# Altium schematic symbol library MCUs.SchLib: 10 symbols
Pins are listed as number, name and electrical type; pins without a type are passive.

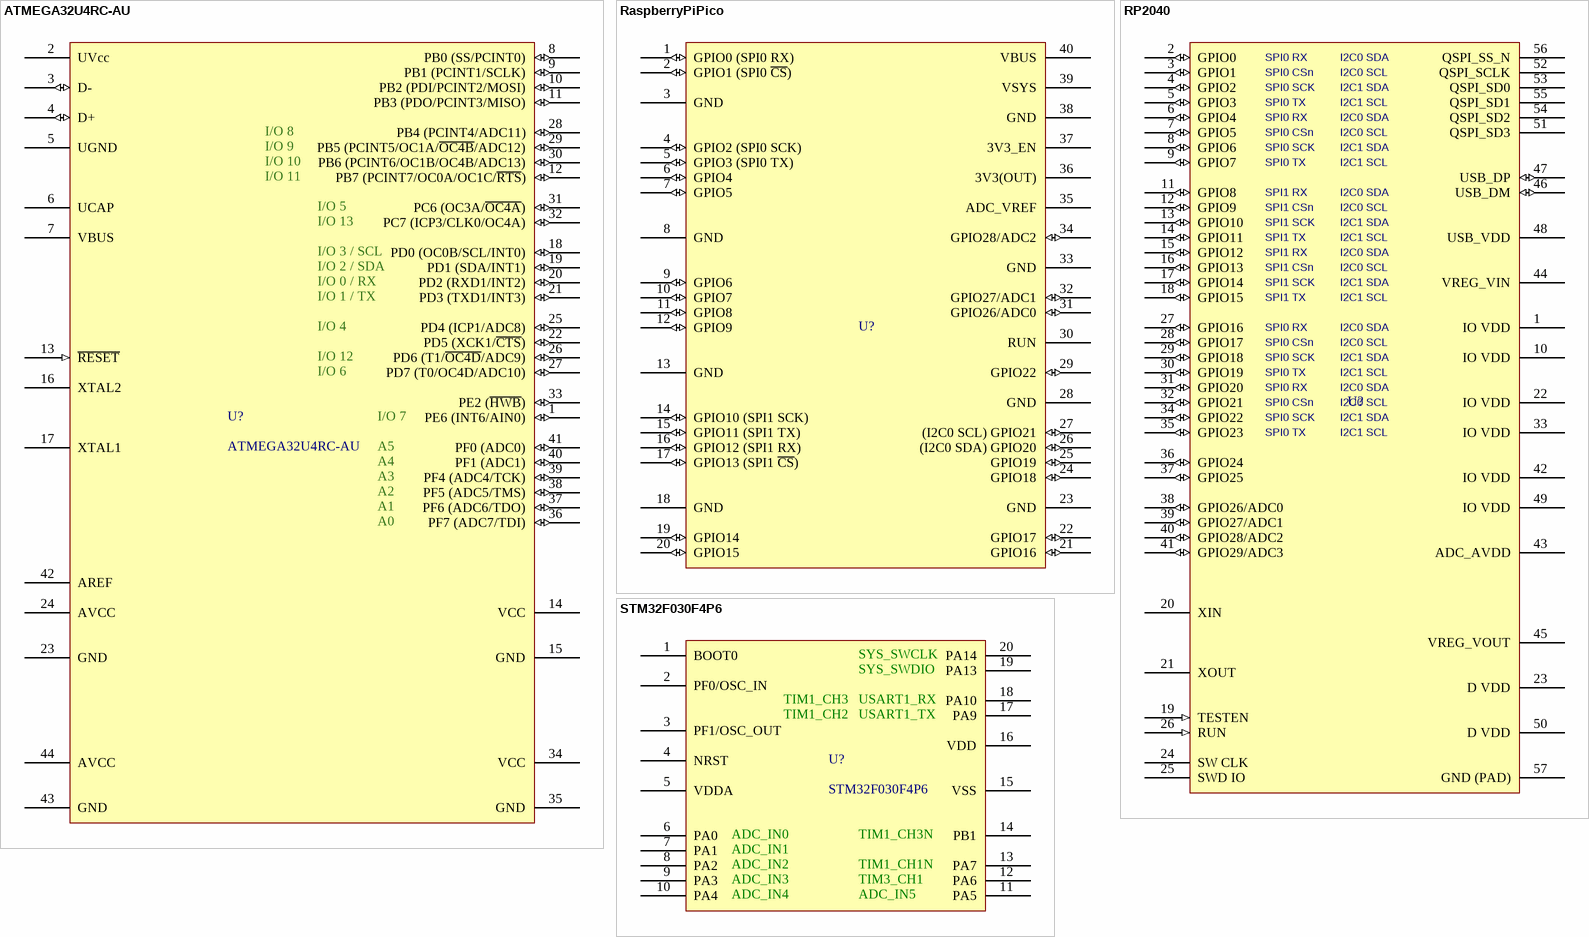
[diagram p0: symbols ATMEGA32U4RC-AU to STM32F030F4P6]

## ATMEGA32U4RC-AU
designator U?
IC MCU 8BIT 32KB FLASH 44TQFP; PNP-Nzl: 6; PNP-dx: 0; PNP-X: 12; PNP-A: 270; PNP-Pt: 1; PNP-W: 0.1; PNP-Thk: 1.6; PNP-Lv: 126; PNP-TS: 70; PNP-Level: 1.2; PNP-Type: QFP; PNP-FeedType: Tray; PNP-PlacePriority: 3; PNP-dy: 0; PNP-Y: 12; PNP-Voff: 0; PNP-da: 0; Supplier 1: Digi-Key; Supplier 2: Mouser; Supplier 3: Arrow; Supplier Part Number 1: ATMEGA32U4RC-AU-ND; Supplier Part Number 2: 556-ATMEGA32U4RC-AU; Supplier Part Number 3: ATMEGA32U4RC-AU
footprint ATmega32U4 - TQFP80P1200X1200X120-44N (TQFP, 44-Leads, Body 10.00x10.00mm, Pitch 0.80mm, IPC Medium Density)
pins: 1 PE6 (INT6/AIN0) (io), 2 UVcc (power), 3 D- (io), 4 D+ (io), 5 UGND, 6 UCAP, 7 VBUS (power), 8 PB0 (SS/PCINT0) (io), 9 PB1 (PCINT1/SCLK) (io), 10 PB2 (PDI/PCINT2/MOSI) (io), 11 PB3 (PDO/PCINT3/MISO) (io), 12 PB7 (PCINT7/OC0A/OC1C/~{RTS}) (io), 13 ~{RESET} (in), 14 VCC (power), 15 GND, 16 XTAL2, 17 XTAL1, 18 PD0 (OC0B/SCL/INT0) (io), 19 PD1 (SDA/INT1) (io), 20 PD2 (RXD1/INT2) (io), 21 PD3 (TXD1/INT3) (io), 22 PD5 (XCK1/~{CTS}) (io), 23 GND, 24 AVCC (power), 25 PD4 (ICP1/ADC8) (io), 26 PD6 (T1/~{OC4D}/ADC9) (io), 27 PD7 (T0/OC4D/ADC10) (io), 28 PB4 (PCINT4/ADC11) (io), 29 PB5 (PCINT5/OC1A/~{OC4B}/ADC12) (io), 30 PB6 (PCINT6/OC1B/OC4B/ADC13) (io), 31 PC6 (OC3A/~{OC4A}) (io), 32 PC7 (ICP3/CLK0/OC4A) (io), 33 PE2 (~{HWB}) (io), 34 VCC (power), 35 GND, 36 PF7 (ADC7/TDI) (io), 37 PF6 (ADC6/TDO) (io), 38 PF5 (ADC5/TMS) (io), 39 PF4 (ADC4/TCK) (io), 40 PF1 (ADC1) (io), 41 PF0 (ADC0) (io), 42 AREF, 43 GND, 44 AVCC (power)
text: I/O 8; I/O 9; I/O 10; I/O 11; I/O 5; I/O 13; I/O 3 / SCL; I/O 2 / SDA; I/O 0 / RX; I/O 1 / TX; I/O 4; I/O 12; I/O 6; I/O 7; A5; A4; A3; A2; A1; A0

## RaspberryPiPico
designator U?, comment Raspberry Pi Pico Socket  (value not drawn)
Thru-hole lands for adding a socket that is compatible with the Raspberry Pi Pico; Supplier 1: Newark; Supplier Part Number 1: 49AJ8740
footprint Raspberry Pi Pico Header
pins: 1 GPIO0 (SPI0 RX) (io), 2 GPIO1 (SPI0 ~{CS}) (io), 3 GND, 4 GPIO2 (SPI0 SCK) (io), 5 GPIO3 (SPI0 TX) (io), 6 GPIO4 (io), 7 GPIO5 (io), 8 GND, 9 GPIO6 (io), 10 GPIO7 (io), 11 GPIO8 (io), 12 GPIO9 (io), 13 GND, 14 GPIO10 (SPI1 SCK) (io), 15 GPIO11 (SPI1 TX) (io), 16 GPIO12 (SPI1 RX) (io), 17 GPIO13 (SPI1 ~{CS}) (io), 18 GND, 19 GPIO14 (io), 20 GPIO15 (io), 21 GPIO16 (io), 22 GPIO17 (io), 23 GND, 24 GPIO18 (io), 25 GPIO19 (io), 26 (I2C0 SDA) GPIO20 (io), 27 (I2C0 SCL) GPIO21 (io), 28 GND, 29 GPIO22 (io), 30 RUN, 31 GPIO26/ADC0 (io), 32 GPIO27/ADC1 (io), 33 GND, 34 GPIO28/ADC2 (io), 35 ADC_VREF, 36 3V3(OUT), 37 3V3_EN, 38 GND, 39 VSYS, 40 VBUS

## RP2040
designator U?  (value not drawn)
Supplier 1: Newark; Supplier Part Number 1: 49AJ8740
footprint RP2040 - QFN40P700X700X90_HS-57M (QFN, 56-Leads, Body 7.00x7.00mm, Pitch 0.40mm, Thermal Pad 3.10x3.10mm, IPC Low Density)
pins: 1 IO VDD, 2 GPIO0 (io), 3 GPIO1 (io), 4 GPIO2 (io), 5 GPIO3 (io), 6 GPIO4 (io), 7 GPIO5 (io), 8 GPIO6 (io), 9 GPIO7 (io), 10 IO VDD, 11 GPIO8 (io), 12 GPIO9 (io), 13 GPIO10 (io), 14 GPIO11 (io), 15 GPIO12 (io), 16 GPIO13 (io), 17 GPIO14 (io), 18 GPIO15 (io), 19 TESTEN (in), 20 XIN, 21 XOUT, 22 IO VDD, 23 D VDD, 24 SW CLK, 25 SWD IO, 26 RUN (in), 27 GPIO16 (io), 28 GPIO17 (io), 29 GPIO18 (io), 30 GPIO19 (io), 31 GPIO20 (io), 32 GPIO21 (io), 33 IO VDD, 34 GPIO22 (io), 35 GPIO23 (io), 36 GPIO24 (io), 37 GPIO25 (io), 38 GPIO26/ADC0 (io), 39 GPIO27/ADC1 (io), 40 GPIO28/ADC2 (io), 41 GPIO29/ADC3 (io), 42 IO VDD, 43 ADC_AVDD, 44 VREG_VIN, 45 VREG_VOUT, 46 USB_DM (io), 47 USB_DP (io), 48 USB_VDD, 49 IO VDD, 50 D VDD, 51 QSPI_SD3, 52 QSPI_SCLK, 53 QSPI_SD0, 54 QSPI_SD2, 55 QSPI_SD1, 56 QSPI_SS_N, 57 GND (PAD)
text: SPI0 RX; I2C0 SDA; SPI0 CSn; I2C0 SCL; SPI0 SCK; I2C1 SDA; SPI0 TX; I2C1 SCL; SPI1 RX; SPI1 CSn; SPI1 SCK; SPI1 TX

## STM32F030F4P6
designator U?
TSSOP-20, cheapest/smallest STM32F0; PNP-Nzl: 4; PNP-dx: 0; PNP-X: 7; PNP-A: 270; PNP-Pt: 0.8; PNP-W: 0.1; PNP-Thk: 1.6; PNP-Lv: 26; PNP-TS: 70; PNP-Level: 1.7; PNP-Type: sop; PNP-FeedType: Tape; PNP-TapeWidth: 12; PNP-PlacePriority: 3; PNP-TapeIndex: 2; PNP-dy: 0; PNP-Y: 7; PNP-Voff: 0; Supplier 1: Arrow; Supplier Part Number 1: 7RWP-IepdO3H6cCFmLmBQVXKzUbUICPNKBhbrXGaZfA; Supplier 2: Digi-Key; Supplier Part Number 2: 497-14044-5-ND; PNP-da: 0
footprint STM32F030F4P6 - TSOP65P640X120-20M (TSOP, 20-Leads, Body 6.50x4.40mm, Pitch 0.65mm, IPC Low Density)
pins: 1 BOOT0, 2 PF0/OSC_IN, 3 PF1/OSC_OUT, 4 NRST, 5 VDDA, 6 PA0, 7 PA1, 8 PA2, 9 PA3, 10 PA4, 11 PA5, 12 PA6, 13 PA7, 14 PB1, 15 VSS, 16 VDD, 17 PA9, 18 PA10, 19 PA13, 20 PA14
text: SYS_SWCLK; SYS_SWDIO; TIM1_CH3; USART1_RX; TIM1_CH2; USART1_TX; ADC_IN0; TIM1_CH3N; ADC_IN1; ADC_IN2; TIM1_CH1N; ADC_IN3; TIM3_CH1; ADC_IN4; ADC_IN5

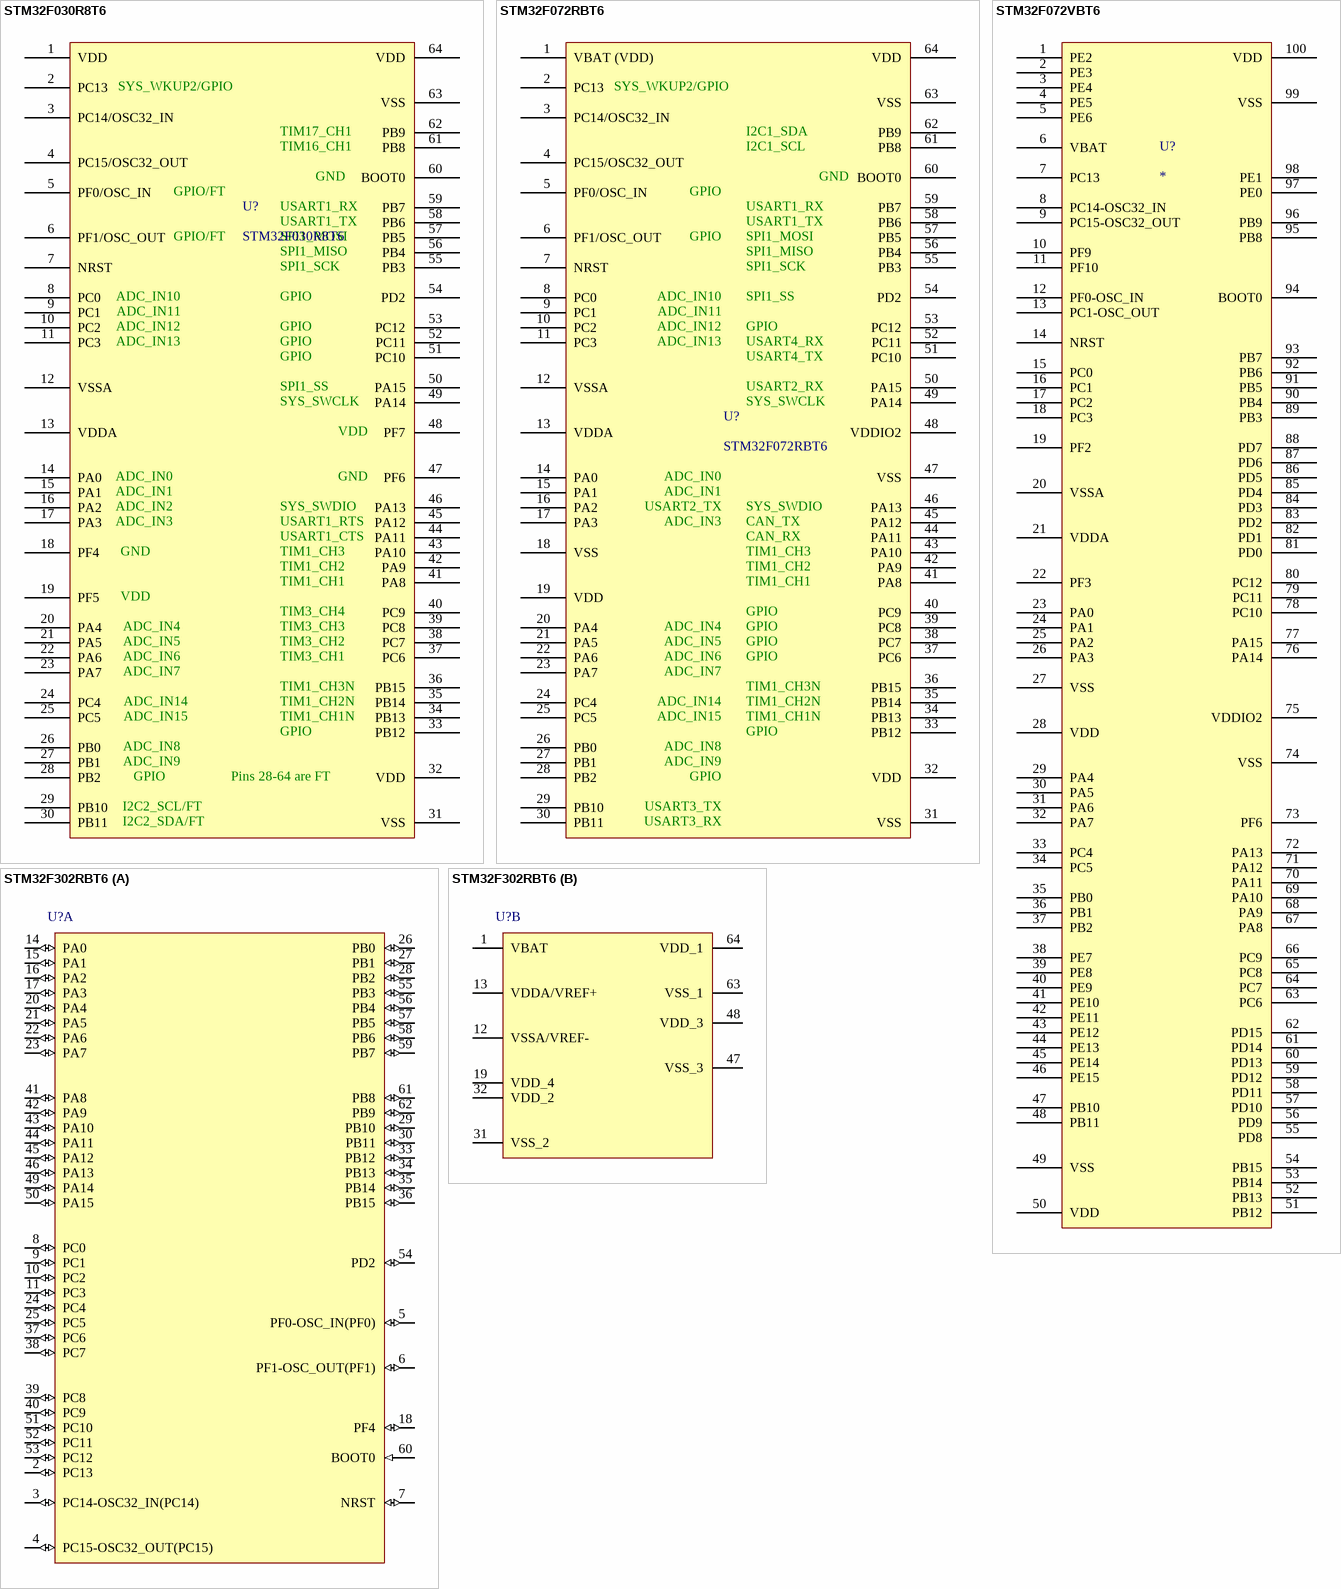
[diagram p1: symbols STM32F030R8T6 to STM32F302RBT6]

## STM32F030R8T6
designator U?
LQFP-64, No CAN; PNP-Nzl: 6; PNP-dx: 0; PNP-X: 12; PNP-A: 270; PNP-Pt: 1; PNP-W: 0.1; PNP-Thk: 1.6; PNP-Lv: 126; PNP-TS: 70; PNP-Level: 1.2; PNP-Type: QFP; PNP-FeedType: Tray; PNP-PlacePriority: 3; PNP-dy: 0; PNP-Y: 12; PNP-Voff: 0; Supplier 1: Digi-Key; Supplier Part Number 1: 497-14045-ND; Supplier 2: Arrow; Supplier Part Number 2: 7RWP-IepdO3H6cCFmLmBQb7P5yG6opB_CjBtc6LyOss; PNP-da: 0
footprint STM32F030R8T6 - TSQFP50P1200X1200X160-64N (TSQFP, 64-Leads, Body 12.2x12.2mm (max), Pitch 0.50mm, IPC Medium Density)
pins: 1 VDD, 2 PC13, 3 PC14/OSC32_IN, 4 PC15/OSC32_OUT, 5 PF0/OSC_IN, 6 PF1/OSC_OUT, 7 NRST, 8 PC0, 9 PC1, 10 PC2, 11 PC3, 12 VSSA, 13 VDDA, 14 PA0, 15 PA1, 16 PA2, 17 PA3, 18 PF4, 19 PF5, 20 PA4, 21 PA5, 22 PA6, 23 PA7, 24 PC4, 25 PC5, 26 PB0, 27 PB1, 28 PB2, 29 PB10, 30 PB11, 31 VSS, 32 VDD, 33 PB12, 34 PB13, 35 PB14, 36 PB15, 37 PC6, 38 PC7, 39 PC8, 40 PC9, 41 PA8, 42 PA9, 43 PA10, 44 PA11, 45 PA12, 46 PA13, 47 PF6, 48 PF7, 49 PA14, 50 PA15, 51 PC10, 52 PC11, 53 PC12, 54 PD2, 55 PB3, 56 PB4, 57 PB5, 58 PB6, 59 PB7, 60 BOOT0, 61 PB8, 62 PB9, 63 VSS, 64 VDD
text: SYS_WKUP2/GPIO; TIM17_CH1; TIM16_CH1; GND; GPIO/FT; USART1_RX; USART1_TX; SPI1_MOSI; SPI1_MISO; SPI1_SCK; ADC_IN10; GPIO; ADC_IN11; ADC_IN12; ADC_IN13; SPI1_SS; SYS_SWCLK; ADC_IN0; ADC_IN1; ADC_IN2; SYS_SWDIO; ADC_IN3; USART1_RTS; USART1_CTS; TIM1_CH3; TIM1_CH2; TIM1_CH1; TIM3_CH4; ADC_IN4; TIM3_CH3; ADC_IN5; TIM3_CH2; ADC_IN6; TIM3_CH1; ADC_IN7; TIM1_CH3N; ADC_IN14; TIM1_CH2N; ADC_IN15; TIM1_CH1N; ADC_IN8; ADC_IN9; Pins 28-64 are FT; I2C2_SCL/FT; I2C2_SDA/FT

## STM32F072RBT6
designator U?
LQFP-64 - CAN-capable; PNP-Nzl: 6; PNP-dx: 0; PNP-X: 12; PNP-A: 270; PNP-Pt: 1; PNP-W: 0.1; PNP-Thk: 1.6; PNP-Lv: 126; PNP-TS: 70; PNP-Level: 1.2; PNP-Type: QFP; PNP-FeedType: Tray; PNP-PlacePriority: 3; Supplier 1: Digi-Key; Supplier Part Number 1: 497-14644-ND; Supplier 2: Mouser; Supplier Part Number 2: 511-STM32F072RBT6; PNP-dy: 0; PNP-Y: 12; PNP-Voff: 0; Supplier 3: Arrow; Supplier Part Number 3: VNcUdt-vR8fWoMeKND9uOvMVRsk-8ZRZEddlAlWA-OY; PNP-da: 0
footprint STM32F030R8T6 - TSQFP50P1200X1200X160-64N (TSQFP, 64-Leads, Body 12.2x12.2mm (max), Pitch 0.50mm, IPC Medium Density)
pins: 1 VBAT (VDD) (power), 2 PC13, 3 PC14/OSC32_IN, 4 PC15/OSC32_OUT, 5 PF0/OSC_IN, 6 PF1/OSC_OUT, 7 NRST, 8 PC0, 9 PC1, 10 PC2, 11 PC3, 12 VSSA (power), 13 VDDA (power), 14 PA0, 15 PA1, 16 PA2, 17 PA3, 18 VSS, 19 VDD, 20 PA4, 21 PA5, 22 PA6, 23 PA7, 24 PC4, 25 PC5, 26 PB0, 27 PB1, 28 PB2, 29 PB10, 30 PB11, 31 VSS (power), 32 VDD (power), 33 PB12, 34 PB13, 35 PB14, 36 PB15, 37 PC6, 38 PC7, 39 PC8, 40 PC9, 41 PA8, 42 PA9, 43 PA10, 44 PA11, 45 PA12, 46 PA13, 47 VSS (power), 48 VDDIO2 (power), 49 PA14, 50 PA15, 51 PC10, 52 PC11, 53 PC12, 54 PD2, 55 PB3, 56 PB4, 57 PB5, 58 PB6, 59 PB7, 60 BOOT0 (power) "Ground this!", 61 PB8, 62 PB9, 63 VSS (power), 64 VDD (power)
text: SYS_WKUP2/GPIO; I2C1_SDA; I2C1_SCL; GND; GPIO; USART1_RX; USART1_TX; SPI1_MOSI; SPI1_MISO; SPI1_SCK; ADC_IN10; SPI1_SS; ADC_IN11; ADC_IN12; ADC_IN13; USART4_RX; USART4_TX; USART2_RX; SYS_SWCLK; ADC_IN0; ADC_IN1; USART2_TX; SYS_SWDIO; ADC_IN3; CAN_TX; CAN_RX; TIM1_CH3; TIM1_CH2; TIM1_CH1; ADC_IN4; ADC_IN5; ADC_IN6; ADC_IN7; TIM1_CH3N; ADC_IN14; TIM1_CH2N; ADC_IN15; TIM1_CH1N; ADC_IN8; ADC_IN9; USART3_TX; USART3_RX

## STM32F072VBT6
designator U?
LQFP-100, CAN-Capable; PNP-Nzl: 6; PNP-dx: 0; PNP-X: 1; PNP-A: 270; PNP-W: 0.1; PNP-Lv: 126; PNP-TS: 70; PNP-Level: 1.4; PNP-Type: QFP; PNP-FeedType: Tray; PNP-PlacePriority: 3; PNP-dy: 0; PNP-Y: 1; PNP-Pt: 1; PNP-Thk: 1; PNP-Voff: 0; PNP-da: 0
footprint TSQFP50P1600X1600X160-100N (TSQFP, 100-Leads, Body 16.2x16.2mm (max), Pitch 0.50mm, IPC Medium Density)
pins: 1 PE2, 2 PE3, 3 PE4, 4 PE5, 5 PE6, 6 VBAT, 7 PC13, 8 PC14-OSC32_IN, 9 PC15-OSC32_OUT, 10 PF9, 11 PF10, 12 PF0-OSC_IN, 13 PC1-OSC_OUT, 14 NRST, 15 PC0, 16 PC1, 17 PC2, 18 PC3, 19 PF2, 20 VSSA, 21 VDDA, 22 PF3, 23 PA0, 24 PA1, 25 PA2, 26 PA3, 27 VSS, 28 VDD, 29 PA4, 30 PA5, 31 PA6, 32 PA7, 33 PC4, 34 PC5, 35 PB0, 36 PB1, 37 PB2, 38 PE7, 39 PE8, 40 PE9, 41 PE10, 42 PE11, 43 PE12, 44 PE13, 45 PE14, 46 PE15, 47 PB10, 48 PB11, 49 VSS, 50 VDD, 51 PB12, 52 PB13, 53 PB14, 54 PB15, 55 PD8, 56 PD9, 57 PD10, 58 PD11, 59 PD12, 60 PD13, 61 PD14, 62 PD15, 63 PC6, 64 PC7, 65 PC8, 66 PC9, 67 PA8, 68 PA9, 69 PA10, 70 PA11, 71 PA12, 72 PA13, 73 PF6, 74 VSS, 75 VDDIO2, 76 PA14, 77 PA15, 78 PC10, 79 PC11, 80 PC12, 81 PD0, 82 PD1, 83 PD2, 84 PD3, 85 PD4, 86 PD5, 87 PD6, 88 PD7, 89 PB3, 90 PB4, 91 PB5, 92 PB6, 93 PB7, 94 BOOT0, 95 PB8, 96 PB9, 97 PE0, 98 PE1, 99 VSS, 100 VDD

## STM32F302RBT6
designator U?
ARM Cortex-M4 32-bit MCU, 128 KB Flash, 24 KB Internal RAM, 52 I/Os, 64-pin LQFP, -40 to 85 degC, Tray; PartNumber: STM32F302RBT6; D/A Converter: 1x12-bit (1 Channel); FLASH Size (Prog) (kB): 128; I/Os (High Current): 52; Internal RAM Size (kB): 24; Operating Frequency(F) (Processor speed) (MHz): 72; Supply Voltage(Vcc) min (V): 2; PNP-Nzl: 6; PNP-dx: 0; PNP-X: 12; PNP-A: 270; PNP-Pt: 1; PNP-W: 0.1; PNP-Thk: 1.6; PNP-Lv: 126; PNP-TS: 70; PNP-Level: 1.2; PNP-Type: QFP; PNP-PlacePriority: 3; DatasheetVersion: Rev. 6; PackageVersion: Rev. 4, 06/2013; PackageReference: LQFP64; PackageDescription: 64-Pin Low Profile Quad Flat Package, 10 x 10 mm Body, 0.5 mm Pitch; Supplier 1: Digi-Key; Supplier Part Number 1: STM32F302RBT6-ND; Supplier 2: Farnell; Supplier Part Number 2: 2333250; Supplier 3: Newark; Supplier Part Number 3: 99W9867; Supplier 4: Newark; Supplier Part Number 4: 66W7283; Supplier 5: Mouser; Supplier Part Number 5: 511-STM32F302RBT6; Core: ARM Cortex-M4; Packing: Tray; Mounting Technology: Surface Mount; ComponentLink1Description: Manufacturer URL; ComponentLink1URL: http://www.st.com/web/en/home.html; ComponentLink2Description: Datasheet; ComponentLink2URL: http://www.st.com/st-web-ui/static/active/en/resource/technical/document/datasheet/DM00058181.pdf; ComponentLink3Description: Package Specification; ComponentLink3URL: http://www.st.com/st-web-ui/static/active/en/resource/technical/document/datasheet/DM00037051.pdf; PNP-dy: 0; PNP-Y: 12; PNP-Voff: 0; PNP-FeedType: Tray; PNP-da: 0
footprint STM32F030R8T6 - TSQFP50P1200X1200X160-64N (TSQFP, 64-Leads, Body 12.2x12.2mm (max), Pitch 0.50mm, IPC Medium Density)
part A pins: 2 PC13 (io) "PC13/TIM1_CH1N/WKUP2,RTC_TAMP1,RTC_TS,RTC_OUT", 3 PC14-OSC32_IN(PC14) (io) "PC14-OSC32_IN(PC14)/OSC32_IN", 4 PC15-OSC32_OUT(PC15) (io) "PC15-OSC32_OUT(PC15)/OSC32_OUT", 5 PF0-OSC_IN(PF0) (io) "PF0-OSC_IN(PF0)/TIM1_CH3N,I2C2_SDA/OSC_IN", 6 PF1-OSC_OUT(PF1) (io) "PF1-OSC_OUT(PF1)/I2C2_SCL/OSC_OUT", 7 NRST (io) "Device reset input / internal reset output (active low)", 8 PC0 (io) "PC0/EVENTOUT/ADC12_IN6", 9 PC1 (io) "PC1/EVENTOUT/ADC12_IN7", 10 PC2 (io) "PC2/EVENTOUT/ADC12_IN8", 11 PC3 (io) "PC3/TIM1_BKIN2,EVENTOUT/ADC12_IN9", 14 PA0 (io) "PA0/USART2_CTS,TIM2_CH1_ETR,TSC_G1_IO1,COMP1_OUT,EVENTOUT/ADC1_IN1,COMP1_INM,RTC_TAMP2,WKUP1", 15 PA1 (io) "PA1/USART2_RTS,TIM2_CH2,TSC_G1_IO2,TIM15_CH1N,RTC_REFIN,EVENTOUT/ADC1_IN2,COMP1_INP,OPAMP1_VINP", 16 PA2 (io) "PA2/USART2_TX,TIM2_CH3,TIM15_CH1,TSC_G1_IO3,COMP2_OUT,EVENTOUT/ADC1_IN3,COMP2_INM,OPAMP1_VOUT", 17 PA3 (io) "PA3/USART2_RX,TIM2_CH4,TIM15_CH2,TSC_G1_IO4,EVENTOUT/ADC1_IN4,OPAMP1_VINP,COMP2_INP,OPAMP1_VINM", 18 PF4 (io) "PF4/COMP1_OUT,EVENTOUT/ADC1_IN5", 20 PA4 (io) "PA4/SPI1_NSS,SPI3_NSS,USART2_CK,TSC_G2_IO1,TIM3_CH2,EVENTOUT/ADC2_IN1,DAC1_OUT1,COMP1_INM,COMP2_INM,COMP4_INM,COMP6_INM", 21 PA5 (io) "PA5/SPI1_SCK,TIM2_CH1_ETR,TSC_G2_IO2,EVENTOUT/ADC2_IN2,OPAMP1_VINP,OPAMP2_VINM,COMP1_INM,COMP2_INM,COMP4_INM,COMP6_INM", 22 PA6 (io) "PA6/SPI1_MISO,TIM3_CH1,TIM1_BKIN,TIM16_CH1,COMP1_OUT,TSC_G2_IO3,EVENTOUT/ADC2_IN3,OPAMP2_VOUT", 23 PA7 (io) "PA7/SPI1_MOSI,TIM3_CH2,TIM17_CH1,TIM1_CH1N,TSC_G2_IO4,COMP2_OUT,EVENTOUT/ADC2_IN4,COMP2_INP,OPAMP2_VINP,OPAMP1_VINP", 24 PC4 (io) "PC4/USART1_TX,EVENTOUT/ADC2_IN5", 25 PC5 (io) "PC5/USART1_RX,TSC_G3_IO1,EVENTOUT/ADC2_IN11,OPAMP2_VINM,OPAMP1_VINM", 26 PB0 (io) "PB0/TIM3_CH3,TIM1_CH2N,TSC_G3_IO2,EVENTOUT/COMP4_INP,OPAMP2_VINP", 27 PB1 (io) "PB1/TIM3_CH4,TIM1_CH3N,COMP4_OUT,TSC_G3_IO3,EVENTOUT", 28 PB2 (io) "PB2/TSC_G3_IO4,EVENTOUT/ADC2_IN12,COMP4_INM", 29 PB10 (io) "PB10/USART3_TX,TIM2_CH3,TSC_SYNC,EVENTOUT", 30 PB11 (io) "PB11/USART3_RX,TIM2_CH4,TSC_G6_IO1,EVENTOUT/COMP6_INP", 33 PB12 (io) "PB12/SPI2_NSS,I2C2_SMBA,USART3_CK,TIM1_BKIN,TSC_G6_IO2,EVENTOUT", 34 PB13 (io) "PB13/SPI2_SCK,USART3_CTS,TIM1_CH1N,TSC_G6_IO3,EVENTOUT", 35 PB14 (io) "PB14/SPI2_MISO,USART3_RTS,TIM1_CH2N,TIM15_CH1,TSC_G6_IO4,EVENTOUT/OPAMP2_VINP", 36 PB15 (io) "PB15/SPI2_MOSI,TIM1_CH3N,RTC_REFIN,TIM15_CH1N,TIM15_CH2,EVENTOUT/COMP6_INM", 37 PC6 (io) "PC6/COMP6_OUT,TIM3_CH1,EVENTOUT", 38 PC7 (io) "PC7/TIM3_CH2,EVENTOUT", 39 PC8 (io) "PC8/TIM3_CH3,EVENTOUT", 40 PC9 (io) "PC9/TIM3_CH4,EVENTOUT", 41 PA8 (io) "PA8/I2C2_SMBA,USART1_CK,TIM1_CH1,TIM4_ETR,MCO,EVENTOUT", 42 PA9 (io) "PA9/I2C2_SCL,USART1_TX,TIM1_CH2,TIM2_CH3,TIM15_BKIN,TSC_G4_IO1,EVENTOUT", 43 PA10 (io) "PA10/I2C2_SDA,USART1_RX,TIM1_CH3,TIM2_CH4,TIM17_BKIN,TSC_G4_IO2,COMP6_OUT,EVENTOUT", 44 PA11 (io) "PA11/USART1_CTS,USB_DM,CAN_RX,TIM1_CH1N,TIM1_CH4,TIM1_BKIN2,TIM4_CH1,COMP1_OUT,EVENTOUT", 45 PA12 (io) "PA12/USART1_RTS,USB_DP,CAN_TX,TIM1_CH2N,TIM1_ETR,TIM4_CH2,TIM16_CH1,COMP2_OUT,EVENTOUT", 46 PA13 (io) "PA13/USART3_CTS,TIM4_CH3,TIM16_CH1N,TSC_G4_IO3,IR_OUT,SWDIO-JTMS,EVENTOUT", 49 PA14 (io) "PA14/I2C1_SDA,USART2_TX,TIM1_BKIN,TSC_G4_IO4,SWCLK-JTCK,EVENTOUT", 50 PA15 (io) "PA15/I2C1_SCL,SPI1_NSS,SPI3_NSS,JTDI,USART2_RX,TIM1_BKIN,TIM2_CH1_ETR,EVENTOUT", 51 PC10 (io) "PC10/SPI3_SCK,USART3_TX,UART4_TX,EVENTOUT", 52 PC11 (io) "PC11/SPI3_MISO,USART3_RX,UART4_RX,EVENTOUT", 53 PC12 (io) "PC12/SPI3_MOSI,USART3_CK,UART5_TX,EVENTOUT", 54 PD2 (io) "PD2/UART5_RX,TIM3_ETR,EVENTOUT", 55 PB3 (io) "PB3/SPI3_SCK,SPI1_SCK,USART2_TX,TIM2_CH2,TIM3_ETR,TIM4_ETR,TSC_G5_IO1,JTDO-TRACESWO,EVENTOUT", 56 PB4 (io) "PB4/SPI3_MISO,SPI1_MISO,USART2_RX,TIM3_CH1,TIM16_CH1,TIM17_BKIN,TSC_G5_IO2,NJTRST,EVENTOUT", 57 PB5 (io) "PB5/SPI3_MOSI,SPI1_MOSI,I2C1_SMBA,USART2_CK,TIM16_BKIN,TIM3_CH2,TIM17_CH1,EVENTOUT", 58 PB6 (io) "PB6/I2C1_SCL,USART1_TX,TIM16_CH1N,TIM4_CH1,TSC_G5_IO3,EVENTOUT", 59 PB7 (io) "PB7/I2C1_SDA,USART1_RX,TIM3_CH4,TIM4_CH2,TIM17_CH1N,TSC_G5_IO4,EVENTOUT", 60 BOOT0 (in) "Boot memory selection", 61 PB8 (io) "PB8/I2C1_SCL,CAN_RX,TIM16_CH1,TIM4_CH3,TIM1_BKIN,TSC_SYNC,COMP1_OUT,EVENTOUT", 62 PB9 (io) "PB9/I2C1_SDA,CAN_TX,TIM17_CH1,TIM4_CH4,IR_OUT,COMP2_OUT,EVENTOUT"
part B pins: 1 VBAT (power) "Backup power supply", 12 VSSA/VREF- (power) "Analog ground/Negative reference voltage", 13 VDDA/VREF+ (power) "Analog power supply/Positive reference voltage", 19 VDD_4 (power) "Digital power supply", 31 VSS_2 (power) "Digital ground", 32 VDD_2 (power) "Digital power supply", 47 VSS_3 (power) "Ground", 48 VDD_3 (power) "Digital power supply", 63 VSS_1 (power) "Ground", 64 VDD_1 (power) "Digital power supply"

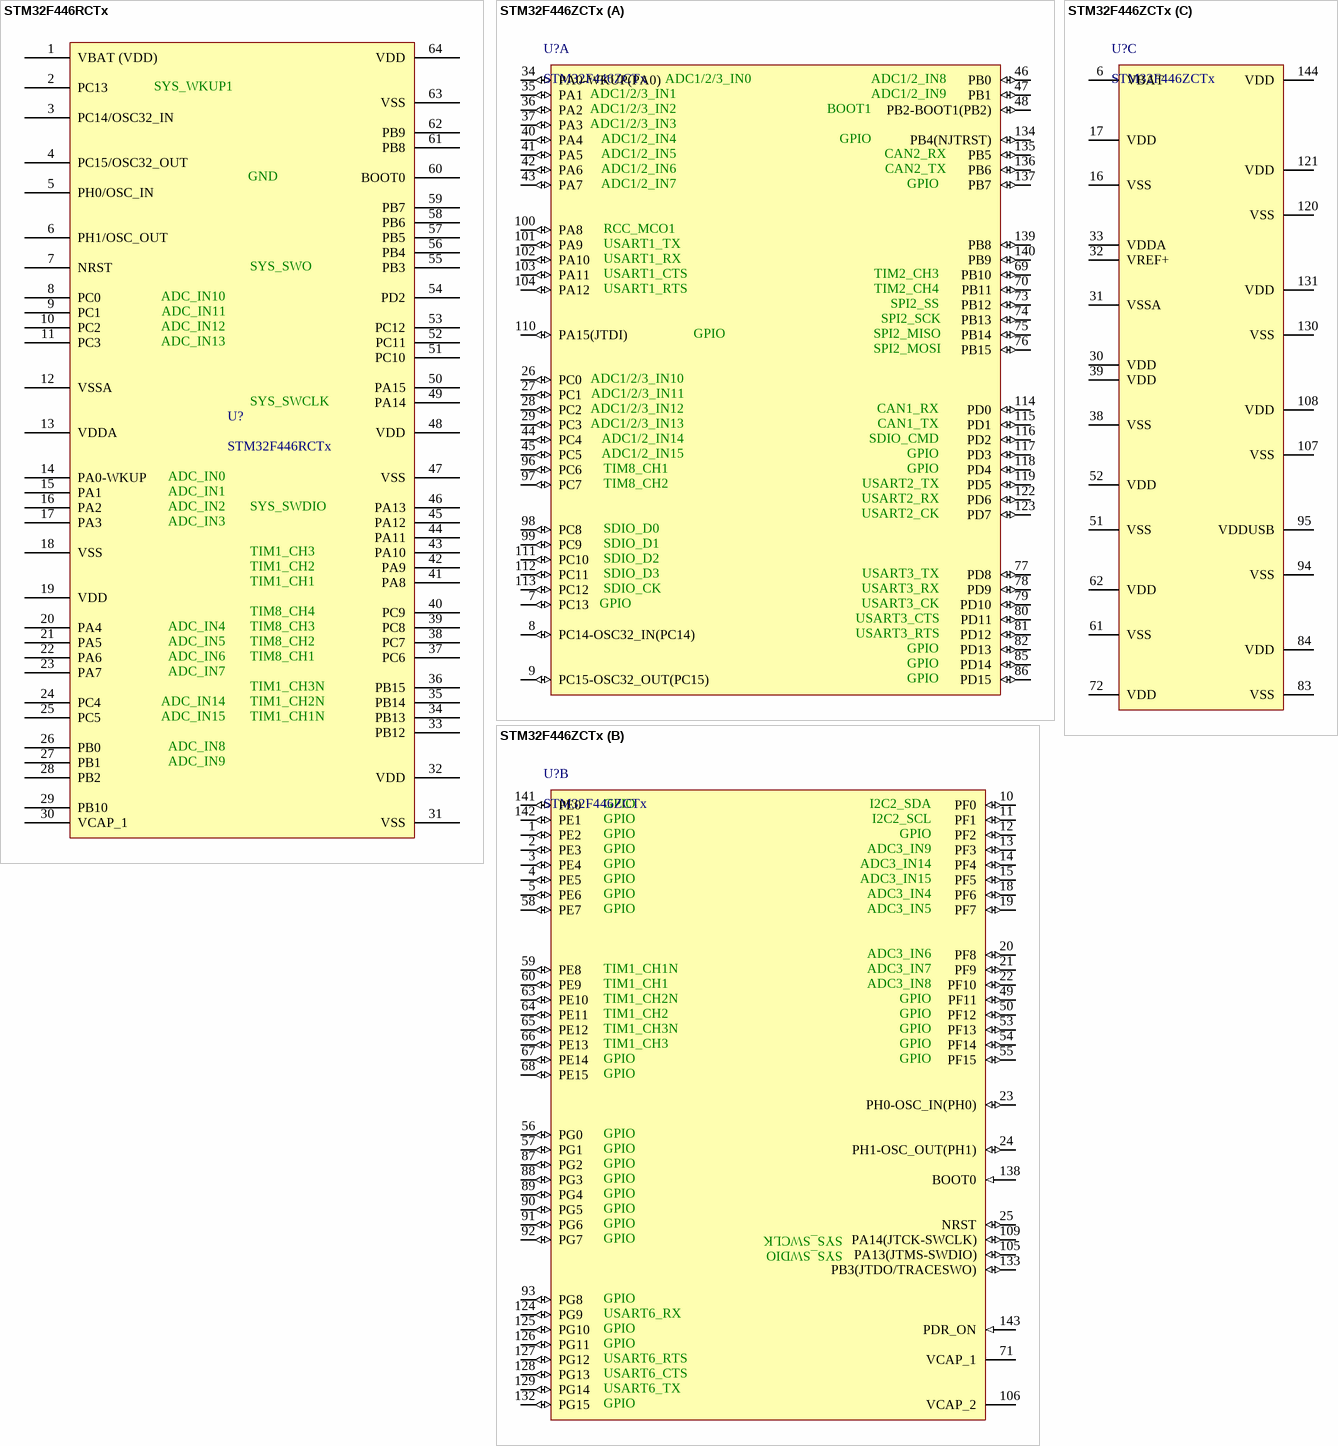
[diagram p2: symbols STM32F446RCTx to STM32F446ZCTx]

## STM32F446RCTx
designator U?
ARM Cortex-M4F 32-bit MCU+FPU, 210 DMIPS, 64-pin LQFP, -40 to 85 degC; PNP-Nzl: 6; PNP-dx: 0; PNP-X: 12; PNP-A: 270; PNP-Pt: 1; PNP-W: 0.1; PNP-Thk: 1.6; PNP-Lv: 126; PNP-TS: 70; PNP-Level: 1.2; PNP-Type: QFP; PNP-FeedType: Tray; PNP-PlacePriority: 3; PNP-dy: 0; PNP-Y: 12; PNP-Voff: 0; Supplier 1: Arrow; Supplier 2: Arrow; Supplier 3: Digi-Key; Supplier Part Number 1: zzrzjdX4WRODYDNLHaem24dTEgxmSnrpYKIwnU4XV4A; Supplier Part Number 2: zzrzjdX4WRODYDNLHaem2-vJJEsD-OG26iuH8E_sgt4; Supplier Part Number 3: 497-15376-ND; PNP-da: 0
footprint STM32F030R8T6 - TSQFP50P1200X1200X160-64N (TSQFP, 64-Leads, Body 12.2x12.2mm (max), Pitch 0.50mm, IPC Medium Density)
pins: 1 VBAT (VDD) (power), 2 PC13, 3 PC14/OSC32_IN, 4 PC15/OSC32_OUT, 5 PH0/OSC_IN, 6 PH1/OSC_OUT, 7 NRST, 8 PC0, 9 PC1, 10 PC2, 11 PC3, 12 VSSA (power), 13 VDDA (power), 14 PA0-WKUP, 15 PA1, 16 PA2, 17 PA3, 18 VSS, 19 VDD, 20 PA4, 21 PA5, 22 PA6, 23 PA7, 24 PC4, 25 PC5, 26 PB0, 27 PB1, 28 PB2, 29 PB10, 30 VCAP_1, 31 VSS (power), 32 VDD (power), 33 PB12, 34 PB13, 35 PB14, 36 PB15, 37 PC6, 38 PC7, 39 PC8, 40 PC9, 41 PA8, 42 PA9, 43 PA10, 44 PA11, 45 PA12, 46 PA13, 47 VSS (power), 48 VDD (power), 49 PA14, 50 PA15, 51 PC10, 52 PC11, 53 PC12, 54 PD2, 55 PB3, 56 PB4, 57 PB5, 58 PB6, 59 PB7, 60 BOOT0 (power) "Ground this!", 61 PB8, 62 PB9, 63 VSS (power), 64 VDD (power)
text: SYS_WKUP1; GND; SYS_SWO; ADC_IN10; ADC_IN11; ADC_IN12; ADC_IN13; SYS_SWCLK; ADC_IN0; ADC_IN1; ADC_IN2; SYS_SWDIO; ADC_IN3; TIM1_CH3; TIM1_CH2; TIM1_CH1; TIM8_CH4; ADC_IN4; TIM8_CH3; ADC_IN5; TIM8_CH2; ADC_IN6; TIM8_CH1; ADC_IN7; TIM1_CH3N; ADC_IN14; TIM1_CH2N; ADC_IN15; TIM1_CH1N; ADC_IN8; ADC_IN9

## STM32F446ZCTx
designator U?
ARM Cortex-M4F 32-bit MCU+FPU, 210 DMIPS, 144-pin LQFP, -40 to 85 degC; Manufacturer: STMicroelectronics; PartNumber: STM32F415ZGT6; D/A Converter: 2x12-bit; FLASH Size (Prog) (kB): 1024; I/Os (High Current): 114; Internal RAM Size (kB): 192; Operating Frequency(F) (Processor speed) (MHz): 168; Packing: Tray; Supply Voltage(Vcc) max (V): 3.6; Supply Voltage(Vcc) min (V): 1.8; PNP-Nzl: 6; PNP-dx: 0; PNP-X: 22; PNP-A: 180; PNP-Pt: 2.25; PNP-Thk: 1.6; PNP-Lv: 27; PNP-TS: 70; PNP-Level: 0.7; PNP-Type: QFP; PNP-PlacePriority: 3; DatasheetVersion: Rev. 4; PackageVersion: Rev. 4, 06/2013; PackageReference: LQFP144; PackageDescription: 144-Pin Low Profile Quad Flat Package, 20 x 20 mm Body, 0.5 mm Pitch; Core: ARM Cortex-M4; Mounting Technology: Surface Mount; ComponentLink1Description: Manufacturer URL; ComponentLink1URL: http://www.st.com/web/en/home.html; ComponentLink2Description: Datasheet; ComponentLink2URL: http://www.st.com/st-web-ui/static/active/en/resource/technical/document/datasheet/DM00035129.pdf; ComponentLink3Description: Package Specification; ComponentLink3URL: http://www.st.com/st-web-ui/static/active/en/resource/technical/document/datasheet/DM00037051.pdf; PNP-dy: 0; PNP-Y: 22; PNP-W: 2.25; PNP-Voff: 0; PNP-FeedType: Tray; Supplier 1: Digi-Key; Supplier Part Number 1: 497-15374-ND; Supplier 2: Arrow; Supplier Part Number 2: zzrzjdX4WRODYDNLHaem26YCNdFaPPoF769bbPd97lk; PNP-da: 0
footprint STM32F446 - TSQFP50P2200X2200X160-144M (TSQFP, 144-Leads, Body 20.00x20.00mm, Pitch 0.50mm, IPC Low Density)
part A pins: 7 PC13 (io) "PC13/EVENTOUT/RTC_OUT,RTC_TAMP1,RTC_TS", 8 PC14-OSC32_IN(PC14) (io) "PC14-OSC32_IN(PC14)/EVENTOUT/OSC32_IN", 9 PC15-OSC32_OUT(PC15) (io) "PC15-OSC32_OUT(PC15)/EVENTOUT/OSC32_OUT", 26 PC0 (io) "PC0/OTG_HS_ULPI_STP/EVENTOUT/ADC123_IN10", 27 PC1 (io) "PC1/ETH_MDC/EVENTOUT/ADC123_IN11", 28 PC2 (io) "PC2/SPI2_MISO/OTG_HS_ULPI_DIR/ETH_MII_TXD2/I2S2ext_SD/EVENTOUT/ADC123_IN12", 29 PC3 (io) "PC3/SPI2_MOSI/I2S2_SD/OTG_HS_ULPI_NXT/ETH_MII_TX_CLK/EVENTOUT/ADC123_IN13", 34 PA0-WKUP(PA0) (io) "PA0-WKUP(PA0)/USART2_CTS/UART4_TX/ETH_MII_CRS/TIM2_CH1_ETR/TIM5_CH1/TIM8_ETR/EVENTOUT/ADC123_IN0/WKUP", 35 PA1 (io) "PA1/USART2_RTS/UART4_RX/ETH_RMII_REF_CLK/ETH_MII_RX_CLK/TIM5_CH2/TIM2_CH2/EVENTOUT/ADC123_IN1", 36 PA2 (io) "PA2/USART2_TX/TIM5_CH3/TIM9_CH1/TIM2_CH3/ETH_MDIO/EVENTOUT/ADC123_IN2", 37 PA3 (io) "PA3/USART2_RX/TIM5_CH4/TIM9_CH2/TIM2_CH4/OTG_HS_ULPI_D0/ETH_MII_COL/EVENTOUT/ADC123_IN3", 40 PA4 (io) "PA4/SPI1_NSS/SPI3_NSS/USART2_CK/DCMI_HSYNC/OTG_HS_SOF/I2S3_WS/EVENTOUT/ADC12_IN4/DAC_OUT1", 41 PA5 (io) "PA5/SPI1_SCK/OTG_HS_ULPI_CK/TIM2_CH1_ETR/TIM8_CH1N/EVENTOUT/ADC12_IN5/DAC_OUT2", 42 PA6 (io) "PA6/SPI1_MISO/TIM8_BKIN/TIM13_CH1/DCMI_PIXCLK/TIM3_CH1/TIM1_BKIN/EVENTOUT/ADC12_IN6", 43 PA7 (io) "PA7/SPI1_MOSI/TIM8_CH1N/TIM14_CH1/TIM3_CH2/ETH_MII_RX_DV/TIM1_CH1N/ETH_RMII_CRS_DV/EVENTOUT/ADC12_IN7", 44 PC4 (io) "PC4/ETH_RMII_RX_D0/ETH_MII_RX_D0/EVENTOUT/ADC12_IN14", 45 PC5 (io) "PC5/ETH_RMII_RX_D1/ETH_MII_RX_D1/EVENTOUT/ADC12_IN15", 46 PB0 (io) "PB0/TIM3_CH3/TIM8_CH2N/OTG_HS_ULPI_D1/ETH_MII_RXD2/TIM1_CH2N/EVENTOUT/ADC12_IN8", 47 PB1 (io) "PB1/TIM3_CH4/TIM8_CH3N/OTG_HS_ULPI_D2/ETH_MII_RXD3/TIM1_CH3N/EVENTOUT/ADC12_IN9", 48 PB2-BOOT1(PB2) (io) "PB2-BOOT1(PB2)/EVENTOUT", 69 PB10 (io) "PB10/SPI2_SCK/I2S2_CK/I2C2_SCL/USART3_TX/OTG_HS_ULPI_D3/ETH_MII_RX_ER/TIM2_CH3/EVENTOUT", 70 PB11 (io) "PB11/I2C2_SDA/USART3_RX/OTG_HS_ULPI_D4/ETH_RMII_TX_EN/ETH_MII_TX_EN/TIM2_CH4/EVENTOUT", 73 PB12 (io) "PB12/SPI2_NSS/I2S2_WS/I2C2_SMBA/USART3_CK/TIM1_BKIN/CAN2_RX/OTG_HS_ULPI_D5/ETH_RMII_TXD0/ETH_MII_TXD0/OTG_HS_ID/EVENTOUT", 74 PB13 (io) "PB13/SPI2_SCK/I2S2_CK/USART3_CTS/TIM1_CH1N/CAN2_TX/OTG_HS_ULPI_D6/ETH_RMII_TXD1/ETH_MII_TXD1/EVENTOUT/OTG_HS_VBUS", 75 PB14 (io) "PB14/SPI2_MISO/TIM1_CH2N/TIM12_CH1/OTG_HS_DM/USART3_RTS/TIM8_CH2N/I2S2ext_SD/EVENTOUT", 76 PB15 (io) "PB15/SPI2_MOSI/I2S2_SD/TIM1_CH3N/TIM8_CH3N/TIM12_CH2/OTG_HS_DP/EVENTOUT/RTC_REFIN", 77 PD8 (io) "PD8/FSMC_D13/USART3_TX/EVENTOUT", 78 PD9 (io) "PD9/FSMC_D14/USART3_RX/EVENTOUT", 79 PD10 (io) "PD10/FSMC_D15/USART3_CK/EVENTOUT", 80 PD11 (io) "PD11/FSMC_CLE/FSMC_A16/USART3_CTS/EVENTOUT", 81 PD12 (io) "PD12/FSMC_ALE/FSMC_A17/TIM4_CH1/USART3_RTS/EVENTOUT", 82 PD13 (io) "PD13/FSMC_A18/TIM4_CH2/EVENTOUT", 85 PD14 (io) "PD14/FSMC_D0/TIM4_CH3/EVENTOUT", 86 PD15 (io) "PD15/FSMC_D1/TIM4_CH4/EVENTOUT", 96 PC6 (io) "PC6/I2S2_MCK/TIM8_CH1/SDIO_D6/USART6_TX/DCMI_D0/TIM3_CH1/EVENTOUT", 97 PC7 (io) "PC7/I2S3_MCK/TIM8_CH2/SDIO_D7/USART6_RX/DCMI_D1/TIM3_CH2/EVENTOUT", 98 PC8 (io) "PC8/TIM8_CH3/SDIO_D0/TIM3_CH3/USART6_CK/DCMI_D2/EVENTOUT", 99 PC9 (io) "PC9/I2S_CKIN/MCO2/TIM8_CH4/SDIO_D1/I2C3_SDA/DCMI_D3/TIM3_CH4/EVENTOUT", 100 PA8 (io) "PA8/MCO1/USART1_CK/TIM1_CH1/I2C3_SCL/OTG_FS_SOF/EVENTOUT", 101 PA9 (io) "PA9/USART1_TX/TIM1_CH2/I2C3_SMBA/DCMI_D0/EVENTOUT/OTG_FS_VBUS", 102 PA10 (io) "PA10/USART1_RX/TIM1_CH3/OTG_FS_ID/DCMI_D1/EVENTOUT", 103 PA11 (io) "PA11/USART1_CTS/CAN1_RX/TIM1_CH4/OTG_FS_DM/EVENTOUT", 104 PA12 (io) "PA12/USART1_RTS/CAN1_TX/TIM1_ETR/OTG_FS_DP/EVENTOUT", 110 PA15(JTDI) (io) "PA15(JTDI)/JTDI/SPI3_NSS/I2S3_WS/TIM2_CH1_ETR/SPI1_NSS/EVENTOUT", 111 PC10 (io) "PC10/SPI3_SCK/I2S3_CK/UART4_TX/SDIO_D2/DCMI_D8/USART3_TX/EVENTOUT", 112 PC11 (io) "PC11/UART4_RX/SPI3_MISO/SDIO_D3/DCMI_D4/USART3_RX/I2S3ext_SD/EVENTOUT", 113 PC12 (io) "PC12/UART5_TX/SDIO_CK/DCMI_D9/SPI3_MOSI/I2S3_SD/USART3_CK/EVENTOUT", 114 PD0 (io) "PD0/FSMC_D2/CAN1_RX/EVENTOUT", 115 PD1 (io) "PD1/FSMC_D3/CAN1_TX/EVENTOUT", 116 PD2 (io) "PD2/TIM3_ETR/UART5_RX/SDIO_CMD/DCMI_D11/EVENTOUT", 117 PD3 (io) "PD3/FSMC_CLK/USART2_CTS/EVENTOUT", 118 PD4 (io) "PD4/FSMC_NOE/USART2_RTS/EVENTOUT", 119 PD5 (io) "PD5/FSMC_NWE/USART2_TX/EVENTOUT", 122 PD6 (io) "PD6/FSMC_NWAIT/USART2_RX/EVENTOUT", 123 PD7 (io) "PD7/USART2_CK/FSMC_NE1/FSMC_NCE2/EVENTOUT", 134 PB4(NJTRST) (io) "PB4(NJTRST)/NJTRST/SPI3_MISO/TIM3_CH1/SPI1_MISO/I2S3ext_SD/EVENTOUT", 135 PB5 (io) "PB5/I2C1_SMBA/CAN2_RX/OTG_HS_ULPI_D7/ETH_PPS_OUT/TIM3_CH2/SPI1_MOSI/SPI3_MOSI/DCMI_D10/I2S3_SD/EVENTOUT", 136 PB6 (io) "PB6/I2C1_SCL/TIM4_CH1/CAN2_TX/DCMI_D5/USART1_TX/EVENTOUT", 137 PB7 (io) "PB7/I2C1_SDA/FSMC_NL/DCMI_VSYNC/USART1_RX/TIM4_CH2/EVENTOUT", 139 PB8 (io) "PB8/TIM4_CH3/SDIO_D4/TIM10_CH1/DCMI_D6/ETH_MII_TXD3/I2C1_SCL/CAN1_RX/EVENTOUT", 140 PB9 (io) "PB9/SPI2_NSS/I2S2_WS/TIM4_CH4/TIM11_CH1/SDIO_D5/DCMI_D7/I2C1_SDA/CAN1_TX/EVENTOUT"
part B pins: 1 PE2 (io) "PE2/TRACECLK/FSMC_A23/ETH_MII_TXD3/EVENTOUT", 2 PE3 (io) "PE3/TRACED0/FSMC_A19/EVENTOUT", 3 PE4 (io) "PE4/TRACED1/FSMC_A20/DCMI_D4/EVENTOUT", 4 PE5 (io) "PE5/TRACED2/FSMC_A21/TIM9_CH1/DCMI_D6/EVENTOUT", 5 PE6 (io) "PE6/TRACED3/FSMC_A22/TIM9_CH2/DCMI_D7/EVENTOUT", 10 PF0 (io) "PF0/FSMC_A0/I2C2_SDA/EVENTOUT", 11 PF1 (io) "PF1/FSMC_A1/I2C2_SCL/EVENTOUT", 12 PF2 (io) "PF2/FSMC_A2/I2C2_SMBA/EVENTOUT", 13 PF3 (io) "PF3/FSMC_A3/EVENTOUT/ADC3_IN9", 14 PF4 (io) "PF4/FSMC_A4/EVENTOUT/ADC3_IN14", 15 PF5 (io) "PF5/FSMC_A5/EVENTOUT/ADC3_IN15", 18 PF6 (io) "PF6/TIM10_CH1/FSMC_NIORD/EVENTOUT/ADC3_IN4", 19 PF7 (io) "PF7/TIM11_CH1/FSMC_NREG/EVENTOUT/ADC3_IN5", 20 PF8 (io) "PF8/TIM13_CH1/FSMC_NIOWR/EVENTOUT/ADC3_IN6", 21 PF9 (io) "PF9/TIM14_CH1/FSMC_CD/EVENTOUT/ADC3_IN7", 22 PF10 (io) "PF10/FSMC_INTR/EVENTOUT/ADC3_IN8", 23 PH0-OSC_IN(PH0) (io) "PH0-OSC_IN(PH0)/EVENTOUT/OSC_IN", 24 PH1-OSC_OUT(PH1) (io) "PH1-OSC_OUT(PH1)/EVENTOUT/OSC_OUT", 25 NRST (io), 49 PF11 (io) "PF11/DCMI_D12/EVENTOUT", 50 PF12 (io) "PF12/FSMC_A6/EVENTOUT", 53 PF13 (io) "PF13/FSMC_A7/EVENTOUT", 54 PF14 (io) "PF14/FSMC_A8/EVENTOUT", 55 PF15 (io) "PF15/FSMC_A9/EVENTOUT", 56 PG0 (io) "PG0/FSMC_A10/EVENTOUT", 57 PG1 (io) "PG1/FSMC_A11/EVENTOUT", 58 PE7 (io) "PE7/FSMC_D4/TIM1_ETR/EVENTOUT", 59 PE8 (io) "PE8/FSMC_D5/TIM1_CH1N/EVENTOUT", 60 PE9 (io) "PE9/FSMC_D6/TIM1_CH1/EVENTOUT", 63 PE10 (io) "PE10/FSMC_D7/TIM1_CH2N/EVENTOUT", 64 PE11 (io) "PE11/FSMC_D8/TIM1_CH2/EVENTOUT", 65 PE12 (io) "PE12/FSMC_D9/TIM1_CH3N/EVENTOUT", 66 PE13 (io) "PE13/FSMC_D10/TIM1_CH3/EVENTOUT", 67 PE14 (io) "PE14/FSMC_D11/TIM1_CH4/EVENTOUT", 68 PE15 (io) "PE15/FSMC_D12/TIM1_BKIN/EVENTOUT", 71 VCAP_1 (power), 87 PG2 (io) "PG2/FSMC_A12/EVENTOUT", 88 PG3 (io) "PG3/FSMC_A13/EVENTOUT", 89 PG4 (io) "PG4/FSMC_A14/EVENTOUT", 90 PG5 (io) "PG5/FSMC_A15/EVENTOUT", 91 PG6 (io) "PG6/FSMC_INT2/EVENTOUT", 92 PG7 (io) "PG7/FSMC_INT3/USART6_CK/EVENTOUT", 93 PG8 (io) "PG8/USART6_RTS/ETH_PPS_OUT/EVENTOUT", 105 PA13(JTMS-SWDIO) (io) "PA13(JTMS-SWDIO)/JTMS-SWDIO/EVENTOUT", 106 VCAP_2 (power), 109 PA14(JTCK-SWCLK) (io) "PA14(JTCK-SWCLK)/JTCK-SWCLK/EVENTOUT", 124 PG9 (io) "PG9/USART6_RX/FSMC_NE2/FSMC_NCE3/EVENTOUT", 125 PG10 (io) "PG10/FSMC_NCE4_1/FSMC_NE3/EVENTOUT", 126 PG11 (io) "PG11/FSMC_NCE4_2/ETH_MII_TX_EN/ETH_RMII_TX_EN/EVENTOUT", 127 PG12 (io) "PG12/FSMC_NE4/USART6_RTS/EVENTOUT", 128 PG13 (io) "PG13/FSMC_A24/USART6_CTS/ETH_MII_TXD0/ETH_RMII_TXD0/EVENTOUT", 129 PG14 (io) "PG14/FSMC_A25/USART6_TX/ETH_MII_TXD1/ETH_RMII_TXD1/EVENTOUT", 132 PG15 (io) "PG15/USART6_CTS/DCMI_D13/EVENTOUT", 133 PB3(JTDO/TRACESWO) (io) "PB3(JTDO/TRACESWO)/JTDO/TRACESWO/SPI3_SCK/I2S3_CK/TIM2_CH2/SPI1_SCK/EVENTOUT", 138 BOOT0 (in) "BOOT0/VPP", 141 PE0 (io) "PE0/TIM4_ETR/FSMC_NBL0/DCMI_D2/EVENTOUT", 142 PE1 (io) "PE1/FSMC_NBL1/DCMI_D3/EVENTOUT", 143 PDR_ON (in)
part C pins: 6 VBAT (power), 16 VSS (power), 17 VDD (power), 30 VDD (power), 31 VSSA (power), 32 VREF+ (power), 33 VDDA (power), 38 VSS (power), 39 VDD (power), 51 VSS (power), 52 VDD (power), 61 VSS (power), 62 VDD (power), 72 VDD (power), 83 VSS (power), 84 VDD (power), 94 VSS (power), 95 VDDUSB (power) "VDD", 107 VSS (power), 108 VDD (power), 120 VSS (power), 121 VDD (power), 130 VSS (power), 131 VDD (power), 144 VDD (power)
part A text: ADC1/2/3_IN0; ADC1/2_IN8; ADC1/2/3_IN1; ADC1/2_IN9; ADC1/2/3_IN2; BOOT1; ADC1/2/3_IN3; ADC1/2_IN4; GPIO; ADC1/2_IN5; CAN2_RX; ADC1/2_IN6; CAN2_TX; ADC1/2_IN7; RCC_MCO1; USART1_TX; USART1_RX; USART1_CTS; TIM2_CH3; USART1_RTS; TIM2_CH4; SPI2_SS; SPI2_SCK; SPI2_MISO; SPI2_MOSI; ADC1/2/3_IN10; ADC1/2/3_IN11; ADC1/2/3_IN12; CAN1_RX; ADC1/2/3_IN13; CAN1_TX; ADC1/2_IN14; SDIO_CMD; ADC1/2_IN15; TIM8_CH1; TIM8_CH2; USART2_TX; USART2_RX; USART2_CK; SDIO_D0; SDIO_D1; SDIO_D2; SDIO_D3; USART3_TX; SDIO_CK; USART3_RX; USART3_CK; USART3_CTS; USART3_RTS
part B text: GPIO; I2C2_SDA; I2C2_SCL; ADC3_IN9; ADC3_IN14; ADC3_IN15; ADC3_IN4; ADC3_IN5; ADC3_IN6; TIM1_CH1N; ADC3_IN7; TIM1_CH1; ADC3_IN8; TIM1_CH2N; TIM1_CH2; TIM1_CH3N; TIM1_CH3; SYS_SWCLK; SYS_SWDIO; USART6_RX; USART6_RTS; USART6_CTS; USART6_TX